# EAGLE library part PIC12LF1552 (library microchip_pic12f)
Low pincount microcontroller http://www.microchip.com/wwwproducts/Devices.aspx?product=PIC12LF1552 Properties Parameter Name Value Program Memory Type Flash Program Memory (KB) 3.5 CPU Speed (MIPS) 8 RAM Bytes 256 Digital Communication Peripherals 1-SPI, 1-I2C1-MSSP(SPI/I2C) Timers 1 x 8-bit ADC 5 ch, 10-bit Temperature Range (C) -40 to 85 Operating Voltage Range (V) 1.8 to 3.6 Pin Count 8 Cap Touch Channels 4 Features 4 Channel 10-bit Analog to Digital Converter (ADC) Advanced Controls for CVD (Capacitive Voltage Divider) Voltage Reference MI2C, SPI 25mA Source/Sink current I/O 32 MHz internal oscillator Low Power Brown Out Reset (LPBOR) Extended Watchdog Timer (WDT) Operating Voltage : 1.8V – 3.6V Library from www.mikroelektroniikka.fi/lbr
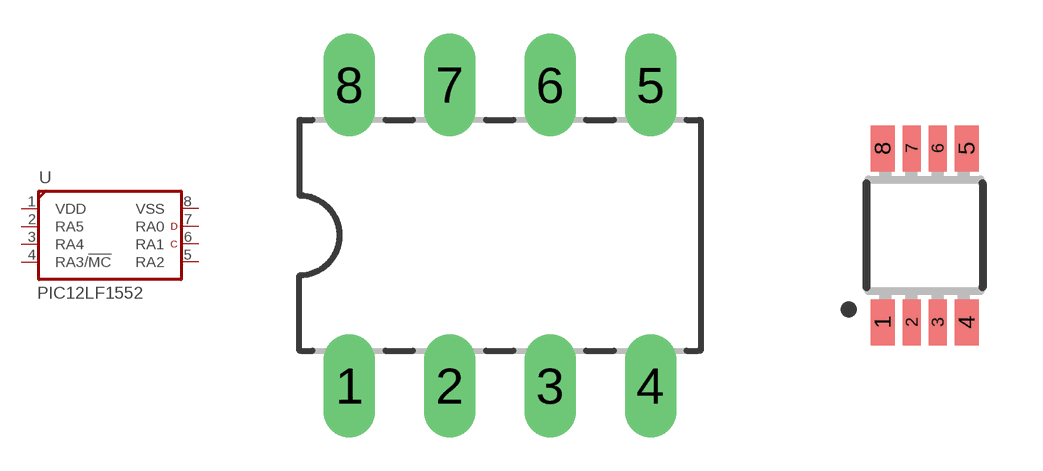
[diagram p5: symbol with the pads of DIL8-P; footprints DIL8-P, MSOP8-MS]

Designator prefix U

## PIC12LF1552/P  [DIL8-P]
1  VDD  pas
2  RA5
3  RA4
4  RA3/!MC!
5  RA2
6  RA1
7  RA0
8  VSS  pas

## PIC12LF1552/MS  [MSOP8-MS]
Pads as for DIL8-P

## PIC12LF1552/SN  [SOIC8-SN]
Pads as for DIL8-P

## PIC12LF1552/MU  [DFN8-MU]
1  VDD  pas
2  RA5
3  RA4
4  RA3/!MC!
5  RA2
6  RA1
7  RA0
8  VSS  pas
EP  VSS  pas

## Footprint DIL8-P (pad centres in mm)
PDIP8 (P) 8-Lead plastic dual in line - 300mil body
drill 0.8 pad 1.3 long: 1 -3.81,-3.81; 2 -1.27,-3.81; 3 1.27,-3.81; 4 3.81,-3.81; 5 3.81,3.81; 6 1.27,3.81; 7 -1.27,3.81; 8 -3.81,3.81

## Footprint MSOP8-MS (pad centres in mm)
MSOP8 (MS) 8-Lead plastic micro small outline package 3 mm body 0.65 mm pitch - TSSOP8
smd 0.6 x 1.15: 1 -1.05,-2.175; 4 1.05,-2.175; 5 1.05,2.175; 8 -1.05,2.175
smd 0.45 x 1.15: 2 -0.325,-2.175; 3 0.325,-2.175; 6 0.325,2.175; 7 -0.325,2.175

## Footprint SOIC8-SN (pad centres in mm)
SOIC8 (SN) 8-Lead plastic small outline - narrow - 3.9 mm body
smd 0.6 x 1.5: 1 -1.905,-2.7; 2 -0.635,-2.7; 3 0.635,-2.7; 4 1.905,-2.7; 5 1.905,2.7; 6 0.635,2.7; 7 -0.635,2.7; 8 -1.905,2.7

## Footprint DFN8-MU (pad centres in mm)
UDFN8 (MU) 8-lead plastic dual flat, no lead package - 2x3x0.5mm (Microchip)
smd 0.3 x 0.6: 1 -0.75,-1.525; 2 -0.25,-1.525; 3 0.25,-1.525; 4 0.75,-1.525; 5 0.75,1.525; 6 0.25,1.525; 7 -0.25,1.525; 8 -0.75,1.525
smd 1.46 x 1.36: EP 0,0